# EAGLE library part R8C/16/17(20PIN) (library renesas_mcu)
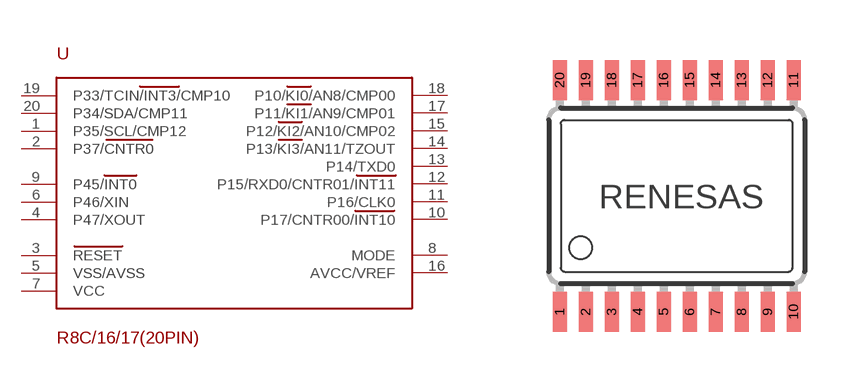
[diagram p82: symbol with the pads of 20P2E/F-A; footprint 20P2E/F-A]

Designator prefix -

## R8C/16/17(20PIN)  [20P2E/F-A]
1  P35/SCL/CMP12
2  P37/CNTR0
3  RESET
4  P47/XOUT
5  VSS/AVSS
6  P46/XIN
7  VCC
8  MODE
9  P45/INT0
10  P17/CNTR00/INT10
11  P16/CLK0
12  P15/RXD0/CNTR01/INT11
13  P14/TXD0
14  P13/KI3/AN11/TZOUT
15  P12/KI2/AN10/CMP02
16  AVCC/VREF
17  P11/KI1/AN9/CMP01
18  P10/KI0/AN8/CMP00
19  P33/TCIN/INT3/CMP10
20  P34/SDA/CMP11

## Footprint 20P2E/F-A (pad centres in mm)
smd 0.35 x 1: 1 -2.925,-2.9; 2 -2.275,-2.9; 3 -1.625,-2.9; 4 -0.975,-2.9; 5 -0.325,-2.9; 6 0.325,-2.9; 7 0.975,-2.9; 8 1.625,-2.9; 9 2.275,-2.9; 10 2.925,-2.9; 11 2.925,2.9; 12 2.275,2.9; 13 1.625,2.9; 14 0.975,2.9; 15 0.325,2.9; 16 -0.325,2.9; 17 -0.975,2.9; 18 -1.625,2.9; 19 -2.275,2.9; 20 -2.925,2.9